# Altium schematic symbol library BJT.SchLib: 2 symbols
Pins are listed as number, name and electrical type; pins without a type are passive.

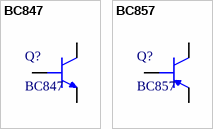
[diagram p0: symbols BC847 to BC857]

## BC847
designator Q?
NPN transistor
footprint SOT23
pins: 1, 2, 3

## BC857
designator Q?
PNP Transistor
footprint SOT23
pins: 1, 2, 3